# EAGLE library part ARDUINO_UNO_SMOL (library ElcPartsLibrary)
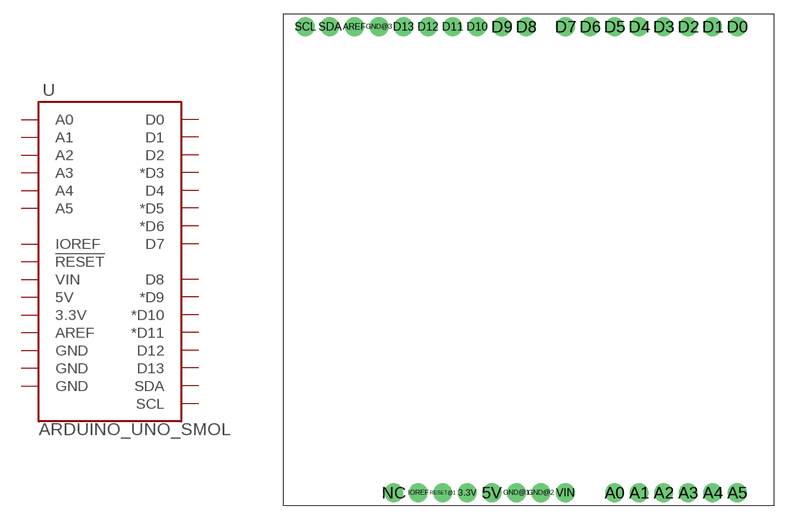
[diagram p6: symbol with the pads of ARDUINO_R3_SMOL; footprint ARDUINO_R3_SMOL]

Designator prefix -

## ARDUINO_UNO_SMOLSMOL  [ARDUINO_R3_SMOL]
3.3V  3.3V
5V  5V
A0  A0
A1  A1
A2  A2
A3  A3
A4  A4
A5  A5
AREF  AREF
D0  D0
D1  D1
D2  D2
D3  *D3
D4  D4
D5  *D5
D6  *D6
D7  D7
D8  D8
D9  *D9
D10  *D10
D11  *D11
D12  D12
D13  D13
GND@1  GND
GND@2  GND
GND@3  GND
IOREF  IOREF
RESET@1  !RESET!
SCL  SCL
SDA  SDA
VIN  VIN

## Footprint ARDUINO_R3_SMOL (pad centres in mm)
Arduino Uno R3 Footprint Includes mounting holes, and holes for ICSP header Specifications: Pin count: 38 Area:2.7x2.1in Datasheet referenced for footprint: Example device(s): Arduino Uno R3
drill 1.016 pad 1.93: 3.3V 19.05,1.27; 5V 21.59,1.27; A0 34.29,1.27; A1 36.83,1.27; A2 39.37,1.27; A3 41.91,1.27; A4 44.45,1.27; A5 46.99,1.27; AREF 7.366,49.53; D0 46.99,49.53; D1 44.45,49.53; D2 41.91,49.53; D3 39.37,49.53; D4 36.83,49.53; D5 34.29,49.53; D6 31.75,49.53; D7 29.21,49.53; D8 25.146,49.53; D9 22.606,49.53; D10 20.066,49.53; D11 17.526,49.53; D12 14.986,49.53; D13 12.446,49.53; GND@1 24.13,1.27; GND@2 26.67,1.27; GND@3 9.906,49.53; IOREF 13.97,1.27; NC 11.43,1.27; RESET@1 16.51,1.27; SCL 2.286,49.53; SDA 4.826,49.53; VIN 29.21,1.27